# Altium footprint library CUI_TBP03R2-350-06BE.PcbLib: 1 footprints
Each footprint in its own frame and in the unit in brackets; x right, y up, seen from the top. Pads: shape width x height; smd on the part's side, far side on the other; paste and mask are expansions set on the pad; w line width, h text height; cw(c..) or ccw(c..) is an arc to the next point about the centre after c.
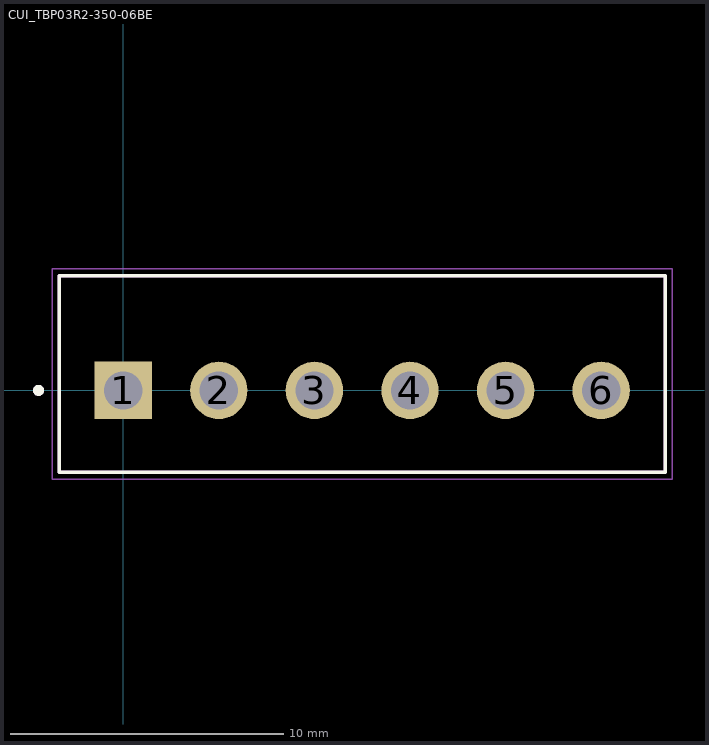
[diagram p0: the footprint, top view; thin cyan lines are the x and y axes]

## CUI_TBP03R2-350-06BE [mm]
height 9.5
pads (6):
  rect 2.1x2.1 / inner round 2.1 / far side rect 2.1x2.1 hole 1.4: 1(0,0)
  round 2.1 hole 1.4: 2(3.5,0) 3(7,0) 4(10.5,0) 5(14,0) 6(17.5,0)
Top Overlay:
  circle w0.2: c-3.1,0 r0.1
  lines w0.127: -2.35,-3 19.85,-3 19.85,4.2 -2.35,4.2 -2.35,-3
Assembly Top:
  circle w0.2: c-3.1,0 r0.1
  lines w0.127: -2.35,-3 19.85,-3 19.85,4.2 -2.35,4.2 -2.35,-3
Courtyard Top:
  lines w0.05: -2.6,-3.25 -2.6,4.45 20.1,4.45 20.1,-3.25 -2.6,-3.25
3D body "step_temp.STEP": height 9.3, standoff -3.3, extent -2.388,-3.009 19.812,4.191